# Altium schematic symbol library GBA_1.SCHLIB: 80 symbols (part 1 of 2)
Pins are listed as number, name and electrical type; pins without a type are passive.

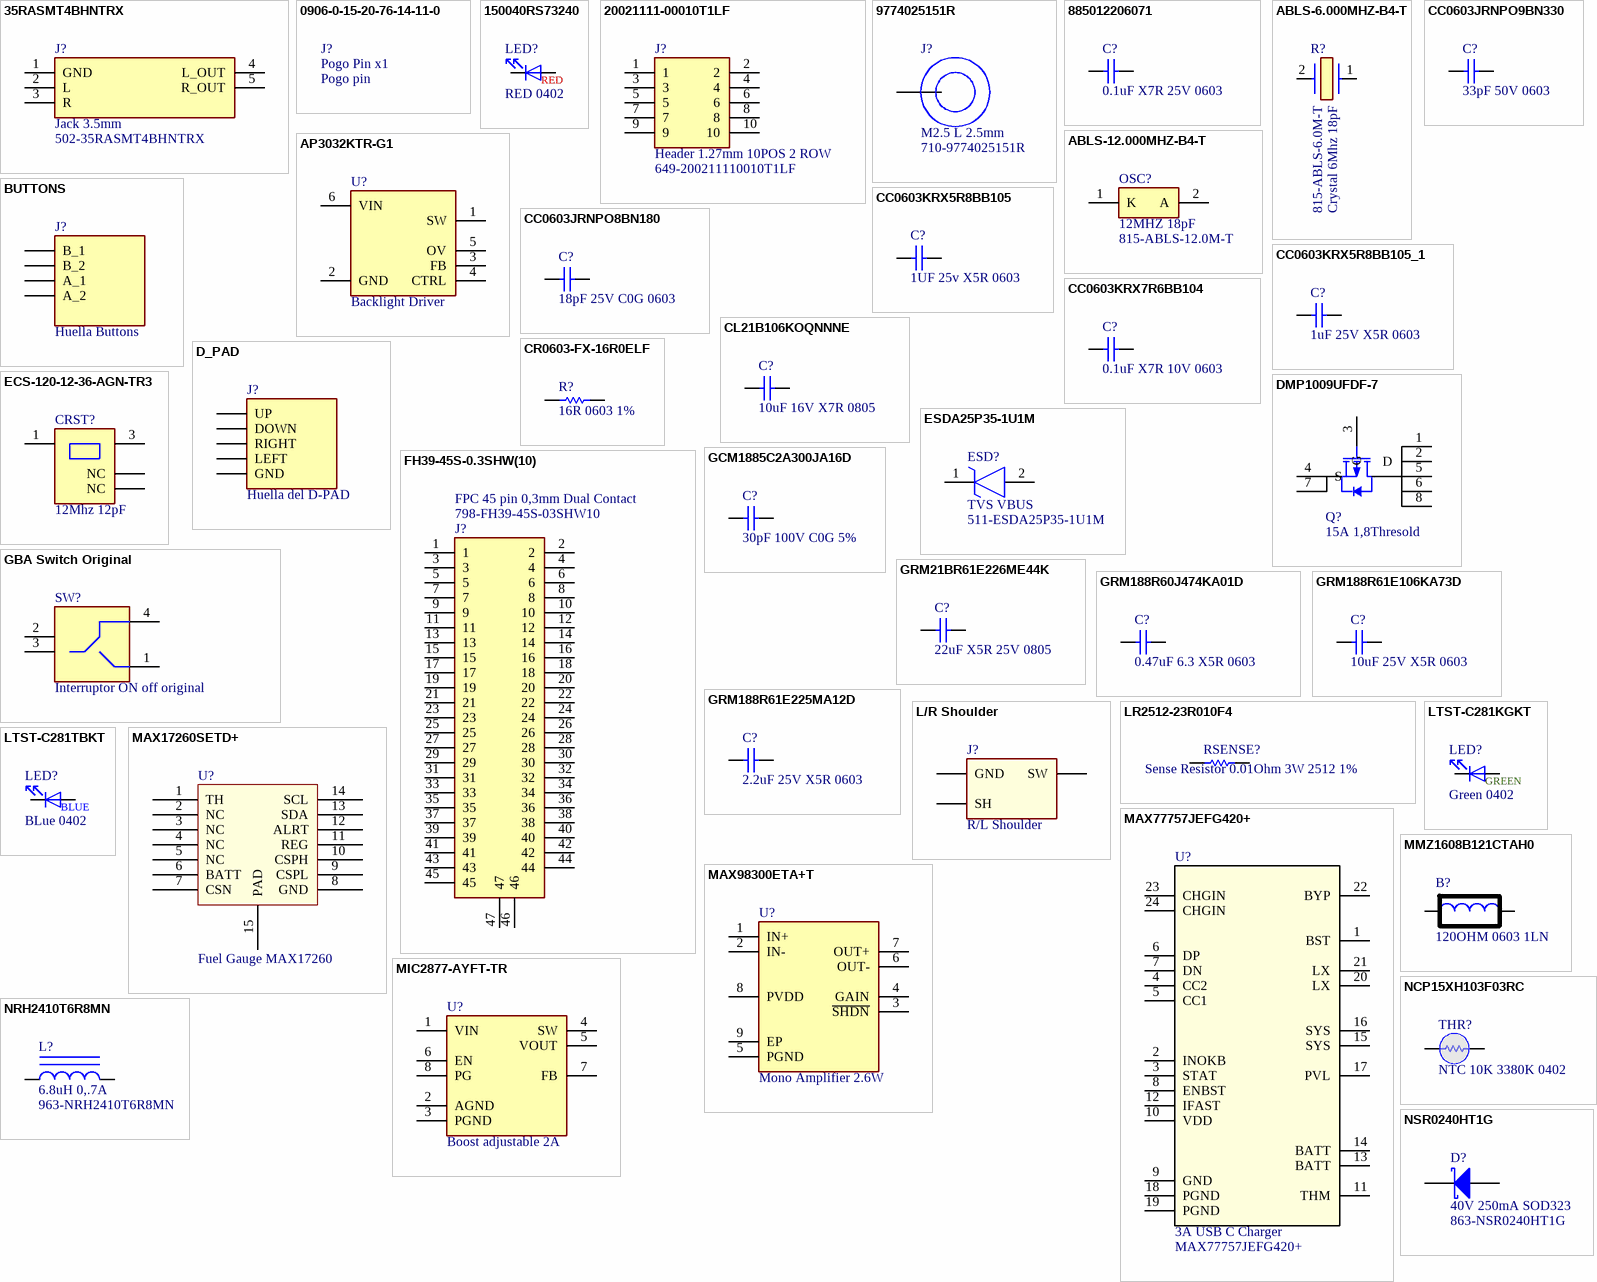
[diagram p0: symbols 35RASMT4BHNTRX to NSR0240HT1G]

## 35RASMT4BHNTRX
designator J?, comment Jack 3.5mm  Supplier Part Number 1: 502-35RASMT4BHNTRX
SWC 35RASMT4BHNTRX Connectors > Audio - Video > Jacks (Audio) > 1/4 Audio Jacks; Manufacturer: Switchcraft; Supplier 1: Mouser; Manufacturer Part Number: 35RASMT4BHNTRX; RoHS: Yes; Category: Circular Connectors; Stock 1: 5330; Pricing 1: 1=1,60000, 10=1,31000, 50=1,31000, 100=1,25000, 250=1,13000, 500=1,04000, 1000=0,95900, 10000=0,95900 (USD); ComponentLink1URL: https://datasheet.ciiva.com/390/35rasmt4bhntrx-cd-390487.pdf?src-supplier=Digi-Key; ComponentLink1Description: https://datasheet.ciiva.com/390/35rasmt4bhntrx-cd-390487.pdf?src-supplier=Digi-Key; ComponentLink2URL: https://datasheet.ciiva.com/11720/0900766b80e28029-11720622.pdf?src-supplier=RSComponents; ComponentLink2Description: https://datasheet.ciiva.com/11720/0900766b80e28029-11720622.pdf?src-supplier=RSComponents; ComponentLink3URL: https://datasheet.ciiva.com/390/35rasmt4bhntrx-cd-390488.pdf?src-supplier=Digi-Key; ComponentLink3Description: https://datasheet.ciiva.com/390/35rasmt4bhntrx-cd-390488.pdf?src-supplier=Digi-Key; ComponentLink4URL: https://datasheet.ciiva.com/390/35rasmt4bhntrx-cd-390489.pdf?src-supplier=Digi-Key; ComponentLink4Description: https://datasheet.ciiva.com/390/35rasmt4bhntrx-cd-390489.pdf?src-supplier=Digi-Key
footprint 35RASMT4BHNTRX
pins: 1 GND, 2 L, 3 R, 4 L_OUT, 5 R_OUT

## 0906-0-15-20-76-14-11-0
designator J?, comment Pogo pin  (mechanical)
0906 Series Spring-Loaded Pin Shell Material=Brass Alloy; Manufacturer: Mill-Max; Manufacturer Part Number: 0906-0-15-20-76-14-11-0; Supplier 1: Mouser; RoHS: Yes; Category: Connectors; Stock 1: 63461; Pricing 1: 1=0,56000, 10=0,42300, 50=0,42300, 100=0,37000, 500=0,35200, 1000=0,29000, 2500=0,25500, 10000=0,23400, 30000=0,22800, 50000=0,22000 (USD); ComponentLink1URL: https://datasheet.ciiva.com/16427/0906-0-15-20-76-14-11-0-16427148.pdf?src-supplier=Future+Electronics; ComponentLink1Description: https://datasheet.ciiva.com/16427/0906-0-15-20-76-14-11-0-16427148.pdf?src-supplier=Future+Electronics; ComponentLink2URL: https://datasheet.ciiva.com/16886/70206242-16886092.pdf?src-supplier=Allied+Electronics; ComponentLink2Description: https://datasheet.ciiva.com/16886/70206242-16886092.pdf?src-supplier=Allied+Electronics; Supplier Part Number 1: 575-906015
text: Pogo Pin x1

## 150040RS73240
designator LED?, comment RED 0402
Led Red Clear 0402 SMD; Manufacturer: Wurth Electronics; Manufacturer Part Number: 150040RS73240; Lens Color: Colorless; Lens Style: Flat; Luminous Intensity: 100mcd; Forward Voltage: 2V; Test Current: 20mA; Viewing Angle: 120°; Dominant Wavelength: 625nm; Lens Size: 0.5mm; Supplier 1: Mouser; RoHS: Yes; Category: LEDs; Stock 1: 82489; Pricing 1: 1=0,32000, 10=0,27100, 50=0,27100, 100=0,24400, 1000=0,19100, 10000=0,16400 (USD); Mount: Surface Mount; Case/Package: 0402; Color: Red; Case Code (Imperial): 0402; Case Code (Metric): 1005; Packaging: Tape and Reel; Lens Transparency: Clear; Length: 1mm; Width: 0.5mm; Height: 0.5mm; RoHS Compliant: Yes; ComponentLink1URL: http://www.farnell.com/datasheets/2621636.pdf?src-supplier=Farnell; ComponentLink1Description: http://www.farnell.com/datasheets/2621636.pdf?src-supplier=Farnell; ComponentLink2URL: http://www.farnell.com/datasheets/2621636.pdf?src-supplier=Element14; ComponentLink2Description: http://www.farnell.com/datasheets/2621636.pdf?src-supplier=Element14; ComponentLink3URL: https://katalog.we-online.de/pbs/datasheet/150040RS73240.pdf?src-supplier=Digi-Key; ComponentLink3Description: https://katalog.we-online.de/pbs/datasheet/150040RS73240.pdf?src-supplier=Digi-Key; ComponentLink4URL: http://www.farnell.com/datasheets/2621636.pdf?src-supplier=Newark; ComponentLink4Description: http://www.farnell.com/datasheets/2621636.pdf?src-supplier=Newark; Supplier Part Number 1: 710-150040RS73240
footprint LED 0402
pins: 1 K, 2 A
text: RED

## 20021111-00010T1LF
designator J?, comment Header 1.27mm 10POS 2 ROW  Supplier Part Number 1: 649-200211110010T1LF
Conn Unshrouded Header HDR 10 POS 1.27mm Solder ST Thru-Hole Tube; Manufacturer 1: Amphenol FCI; Manufacturer Part Number 1: 20021111-00010T1LF; Number of Contacts: 10; Contact Resistance: 30mR; Max Voltage Rating (AC): 125V; Connector Type: Male Pin; Row Spacing: 0.05inch; Contact Post Length: 2.3mm; Supplier 1: Mouser; Stock 1: 552; Pricing 1: 1=0,62000, 10=0,46900, 100=0,44900, 500=0,39100, 1000=0,32200, 2500=0,29300, 5000=0,28300 (USD); RoHS: Yes; Mount: Through Hole; Contact Plating: Gold; Color: Black; Contact Material: Copper Alloy; Housing Color: Black; Housing Material: Thermoplastic; Min Operating Temperature: -40°C; Max Operating Temperature: 85°C; Number of Rows: 2; Termination: Solder; Package Quantity: 93; Packaging: Rail/Tube; Number of Positions: 10; Orientation: Straight; Length: 6.35mm; Pitch: 1.27mm; Contact Mating Length: 0.12inch; Depth: 3.4mm; ComponentLink1URL: http://www.mouser.com/ds/2/154/minitek127_catalogue-79600.pdf?src-supplier=Mouser; ComponentLink1Description: http://www.mouser.com/ds/2/154/minitek127_catalogue-79600.pdf?src-supplier=Mouser; ComponentLink2URL: http://components.arrow.com/part/dataview/0323_00886572?src-supplier=Arrow+Europe; ComponentLink2Description: http://components.arrow.com/part/dataview/0323_00886572?src-supplier=Arrow+Europe; ComponentLink3URL: http://components.arrow.com/part/dataview/48961252S8521297N8314?src-supplier=Arrow; ComponentLink3Description: http://components.arrow.com/part/dataview/48961252S8521297N8314?src-supplier=Arrow; ComponentLink4URL: http://portal.fciconnect.com/Comergent//fci/drawing/20021111.pdf?src-supplier=Digi-Key; ComponentLink4Description: http://portal.fciconnect.com/Comergent//fci/drawing/20021111.pdf?src-supplier=Digi-Key; ComponentLink5URL: http://portal.fciconnect.com/Comergent/fci/drawing/20021111.pdf?src-supplier=Avnet; ComponentLink5Description: http://portal.fciconnect.com/Comergent/fci/drawing/20021111.pdf?src-supplier=Avnet
footprint 20021111-00010T1LF
pins: 1, 2, 3, 4, 5, 6, 7, 8, 9, 10

## 9774025151R
designator J?, comment M2.5 L 2.5mm  Supplier Part Number 1: 710-9774025151R  (mechanical)
Spacer Material: Steel Mounting: SMT Series: WA-SMSI Thread D: M2.5; Manufacturer: Wurth Electronics; Manufacturer Part Number: 9774025151R; Plating: Tin; Threaded/Unthreaded: Threaded; Outside Diameter: 0.201inch; Supplier 1: Mouser; RoHS: Yes; Category: Spacers, Standoffs; Stock 1: 24227; Pricing 1: 1=1,27000, 10=1,22000, 50=1,07000, 100=0,97900, 500=0,90700, 1000=0,90700, 10000=0,90700 (USD); Material: Steel; Length: 0.154inch; REACH SVHC: Unknown; ComponentLink1URL: http://www.farnell.com/datasheets/1960364.pdf?src-supplier=Farnell; ComponentLink1Description: http://www.farnell.com/datasheets/1960364.pdf?src-supplier=Farnell; ComponentLink2URL: http://www.mouser.com/ds/2/445/9774025151R-611453.pdf?src-supplier=Mouser; ComponentLink2Description: http://www.mouser.com/ds/2/445/9774025151R-611453.pdf?src-supplier=Mouser; ComponentLink3URL: https://media.digikey.com/pdf/Data%20Sheets/Wurth%20Electronics%20PDFs/WA-SMSx_Performance_Flyer.pdf?src-supplier=Digi-Key; ComponentLink3Description: https://media.digikey.com/pdf/Data%20Sheets/Wurth%20Electronics%20PDFs/WA-SMSx_Performance_Flyer.pdf?src-supplier=Digi-Key; ComponentLink4URL: http://www.farnell.com/datasheets/1960364.pdf?src-supplier=Element14; ComponentLink4Description: http://www.farnell.com/datasheets/1960364.pdf?src-supplier=Element14; ComponentLink5URL: http://www.farnell.com/datasheets/1960364.pdf?src-supplier=Newark; ComponentLink5Description: http://www.farnell.com/datasheets/1960364.pdf?src-supplier=Newark
pins: 1

## 885012206071
designator C?, comment 0.1uF X7R 25V 0603
WURTH ELEKTRONIK         885012206071             SMD Multilayer Ceramic Capacitor, 0603 [1608 Metric], 0.1 F, 25 V,  10%, X7R, WCAP-CSGP Series; Manufacturer: Wurth Electronics; Capacitance: 100nF; Supplier 1: Mouser; Manufacturer Part Number: 885012206071; Stock 1: 202580; Pricing 1: 1=0.1, 10=0.046, 50=0.046, 100=0.041, 1000=0.036, 10000=0.036 (USD); Mount: Surface Mount; Case/Package: 0603; Case Code (Metric): 1608; Case Code (Imperial): 0603; Min Operating Temperature: -55°C; Max Operating Temperature: 125°C; Packaging: Cut Tape; Voltage Rating: 25V; Dielectric: X7R; Tolerance: 10%; Voltage Rating (DC): 25V; Length: 0.063inch; Width: 0.031inch; Thickness: 0.037inch; REACH SVHC: Unknown; Supplier Part Number 1: 710-885012206071
footprint C 0603/1608
pins: 1, 2

## ABLS-6.000MHZ-B4-T
designator R?, comment Crystal 6Mhz 18pF  Supplier Part Number 1: 815-ABLS-6.0M-T
Crystal 6MHz ±30ppm (Tol) ±50ppm (Stability) 18pF FUND 100Ohm 2-Pin HC-49/US SMD T/R; Manufacturer: Abracon; Manufacturer Part Number: ABLS-6.000MHZ-B4-T; ESR (Equivalent Series Resistance): 100R; Supplier 1: Mouser; RoHS: Yes; Category: Crystals; Stock 1: 4366; Pricing 1: 1=0,29000, 10=0,23800, 50=0,23800, 100=0,19200, 1000=0,15600, 10000=0,14200 (USD); Mount: Surface Mount; Case/Package: SMD/SMT; Min Operating Temperature: -20°C; Max Operating Temperature: 70°C; Frequency: 6MHz; Load Capacitance: 18pF; Packaging: Tape and Reel; Package Quantity: 1000; Tolerance: 30ppm; Frequency Tolerance: 30ppm; Frequency Stability: 50ppm; Termination: SMD/SMT; Series Resistance: 100R; Length: 11.4mm; Width: 4.7mm; Height: 0.165inch; Depth: 4.7mm; Radiation Hardening: No; REACH SVHC: Yes; Lead Free: Lead Free; ComponentLink1URL: https://datasheet.ciiva.com/15116/getdatasheetpartid-722413-15116851.pdf?src-supplier=Verical; ComponentLink1Description: https://datasheet.ciiva.com/15116/getdatasheetpartid-722413-15116851.pdf?src-supplier=Verical; ComponentLink2URL: https://datasheet.ciiva.com/16378/abls-16378057.pdf?src-supplier=Future+Electronics; ComponentLink2Description: https://datasheet.ciiva.com/16378/abls-16378057.pdf?src-supplier=Future+Electronics; ComponentLink3URL: https://datasheet.ciiva.com/854/abls-854139.pdf?src-supplier=Digi-Key; ComponentLink3Description: https://datasheet.ciiva.com/854/abls-854139.pdf?src-supplier=Digi-Key; ComponentLink4URL: https://datasheet.ciiva.com/854/abls-854140.pdf?src-supplier=Digi-Key; ComponentLink4Description: https://datasheet.ciiva.com/854/abls-854140.pdf?src-supplier=Digi-Key; ComponentLink5URL: https://datasheet.ciiva.com/854/abls-854138.pdf?src-supplier=Digi-Key; ComponentLink5Description: https://datasheet.ciiva.com/854/abls-854138.pdf?src-supplier=Digi-Key; ComponentLink6URL: https://datasheet.ciiva.com/3175/abls-3175436.pdf?src-supplier=Avnet; ComponentLink6Description: https://datasheet.ciiva.com/3175/abls-3175436.pdf?src-supplier=Avnet
footprint ABLS6000MHZB4T
pins: 1, 2 CRYSTAL_2

## ABLS-12.000MHZ-B4-T
designator OSC?, comment 12MHZ 18pF  Supplier Part Number 1: 815-ABLS-12.0M-T
CRYSTAL 12.0000MHZ 18PF SMD; Manufacturer: Abracon; Manufacturer Part Number: ABLS-12.000MHZ-B4-T; Frequency Tolerance: 30ppm; ESR (Equivalent Series Resistance): 50R; Frequency Stability: 50ppm; Supplier 1: Mouser; RoHS: Yes; Stock 1: 9442; Pricing 1: 1 = 0,27000, 10 = 0,22500, 50 = 0,20400, 100 = 0,20400, 1000 = 0,16300, 10000 = 0,14500 (USD); Mount: Surface Mount; Case/Package: SMD/SMT; Min Operating Temperature: -20°C; Max Operating Temperature: 70°C; Package Quantity: 1000; Frequency: 12MHz; Load Capacitance: 18pF; Packaging: Tape and Reel; Tolerance: 30ppm; Termination: SMD/SMT; Series Resistance: 50R; Length: 11.4mm; Height: 0.165inch; Width: 0.185inch; Depth: 4.7mm; Radiation Hardening: No; REACH SVHC: Yes; Lead Free: Lead Free; ComponentLink1URL: https://datasheet.ciiva.com/15116/getdatasheetpartid-719931-15116807.pdf?src-supplier=Verical; ComponentLink1Description: https://datasheet.ciiva.com/15116/getdatasheetpartid-719931-15116807.pdf?src-supplier=Verical; ComponentLink2URL: https://datasheet.ciiva.com/854/abls-854132.pdf?src-supplier=Digi-Key; ComponentLink2Description: https://datasheet.ciiva.com/854/abls-854132.pdf?src-supplier=Digi-Key; ComponentLink3URL: https://datasheet.ciiva.com/854/abls-854133.pdf?src-supplier=Digi-Key; ComponentLink3Description: https://datasheet.ciiva.com/854/abls-854133.pdf?src-supplier=Digi-Key; ComponentLink4URL: https://datasheet.ciiva.com/854/abls-854134.pdf?src-supplier=Digi-Key; ComponentLink4Description: https://datasheet.ciiva.com/854/abls-854134.pdf?src-supplier=Digi-Key; ComponentLink5URL: https://datasheet.ciiva.com/16339/abls-16339801.pdf?src-supplier=Future+Electronics; ComponentLink5Description: https://datasheet.ciiva.com/16339/abls-16339801.pdf?src-supplier=Future+Electronics; ComponentLink6URL: https://datasheet.ciiva.com/3174/abls-3174254.pdf?src-supplier=Avnet; ComponentLink6Description: https://datasheet.ciiva.com/3174/abls-3174254.pdf?src-supplier=Avnet; ComponentLink7URL: https://datasheet.ciiva.com/4944/abls-44621-4944814.pdf?src-supplier=Mouser; ComponentLink7Description: https://datasheet.ciiva.com/4944/abls-44621-4944814.pdf?src-supplier=Mouser
footprint HC/49US-(AT49)_1
pins: 1 K, 2 A

## AP3032KTR-G1
designator U?, comment Backlight Driver
AP3032 Series 9 V 1.3 MHz Surface Mount White LED Step-Up Converter - SOT-23-6; Manufacturer: Diodes; Manufacturer Part Number: AP3032KTR-G1; Number of Outputs: 1; Frequency: 1MHz; Max Supply Voltage: 9V; Output Current per Channel: 1.4A; Min Input Voltage: 2.7V; Max Output Voltage: 38V; Switching Frequency: 750kHz; Topology: Boost; Dimming: PWM; Supplier 1: Mouser; RoHS: Yes; Category: LED Drivers; Stock 1: 35875; Pricing 1: 1=0,41000, 10=0,33600, 50=0,33600, 100=0,20700, 500=0,17200, 1000=0,12900, 3000=0,11700, 9000=0,10300, 10000=0,10300, 24000=0,09700 (USD); Mount: Surface Mount; Case/Package: SOT-23-6; Number of Pins: 6; Weight: 0.000529oz; Min Operating Temperature: -40°C; Max Operating Temperature: 85°C; Package Quantity: 3000; Packaging: Tape and Reel; Max Input Voltage: 9V; Number of Channels: 1; Lead Free: Lead Free; RoHS Compliant: Yes; ComponentLink1URL: https://datasheet.ciiva.com/29602/ap3032-29602682.pdf?src-supplier=Digi-Key; ComponentLink1Description: https://datasheet.ciiva.com/29602/ap3032-29602682.pdf?src-supplier=Digi-Key; ComponentLink2URL: https://datasheet.ciiva.com/29603/ap3032-29603101.pdf?src-supplier=Digi-Key; ComponentLink2Description: https://datasheet.ciiva.com/29603/ap3032-29603101.pdf?src-supplier=Digi-Key; ComponentLink3URL: https://datasheet.ciiva.com/29603/ap3032-29603100.pdf?src-supplier=Digi-Key; ComponentLink3Description: https://datasheet.ciiva.com/29603/ap3032-29603100.pdf?src-supplier=Digi-Key; Supplier Part Number 1: 621-AP3032KTR-G1
footprint SOT95P280X145-6N
pins: 1 SW, 2 GND, 3 FB, 4 CTRL, 5 OV, 6 VIN

## BUTTONS
designator J?, comment Huella Buttons  (no BOM)
footprint AB_BUTTON
pins: A_1, A_2, B_1, B_2

## CC0603JRNPO8BN180
designator C?, comment 18pF 25V C0G 0603
Cap Ceramic 18pF 25V C0G 5% SMD 0603 125C Paper T/R; Manufacturer 1: Yageo; Manufacturer Part Number 1: CC0603JRNPO8BN180; Supplier 1: Mouser; Stock 1: 521; Pricing 1: 1=0.10000, 10=0.04200, 50=0.04200, 100=0.01900, 1000=0.01500, 10000=0.01000 (USD); RoHS: Yes; Mount: Surface Mount; Case/Package: 0603; Weight: 7.1E-05oz; Case Code (Imperial): 0603; Case Code (Metric): 1608; Min Operating Temperature: -55°C; Max Operating Temperature: 125°C; Capacitance: 18pF; Voltage Rating (DC): 25V; Tolerance: 5%; Packaging: Tape and Reel; Dielectric: C0G; Voltage Rating: 25V; Termination: SMD/SMT; Composition: Ceramic; Length: 0.063inch; Width: 0.031inch; Thickness: 0.035inch; ComponentLink1URL: https://datasheet.ciiva.com/13263/upy-gp-np0-16v-to-50v-8-3714-13263805.pdf?src-supplier=Mouser; ComponentLink1Description: https://datasheet.ciiva.com/13263/upy-gp-np0-16v-to-50v-8-3714-13263805.pdf?src-supplier=Mouser; Supplier Part Number 1: 603-CC603JRNPO8BN180
footprint C 0603/1608
pins: 1, 2

## CC0603JRNPO9BN330
designator C?, comment 33pF 50V 0603
0603 33 pF 50 V ±5 % Tolerance NP0 SMT Multilayer Ceramic Capacitor; Manufacturer: Yageo; Manufacturer Part Number: CC0603JRNPO9BN330; Tolerance: 5%; Dielectric: C0G; Temperature Coefficient: 30ppm/°C; Insulation Resistance: 100GR; Supplier 1: Mouser; RoHS: Yes; Category: Ceramic Capacitors; Stock 1: 62339; Pricing 1: 1=0,10000, 10=0,02400, 50=0,02400, 100=0,01900, 500=0,01700, 1000=0,01300, 4000=0,01000, 10000=0,01000 (USD); Mount: Surface Mount; Case/Package: 0603; Number of Pins: 2; Case Code (Metric): 1608; Case Code (Imperial): 0603; Dielectric Material: Ceramic; Min Operating Temperature: -55°C; Max Operating Temperature: 125°C; Capacitance: 33pF; Packaging: Tape and Reel; Voltage Rating: 50V; Package Quantity: 1; Voltage Rating (DC): 50V; Termination: SMD/SMT; Resistor Type: Ceramic; Voltage: 50V; Series: CC; Length: 1.6mm; Width: 0.031inch; Height: 0.8mm; Thickness: 0.035inch; Depth: 0.8mm; Radiation Hardening: No; REACH SVHC: No SVHC; Lead Free: Lead Free; RoHS Compliant: Yes; ComponentLink1URL: https://datasheet.ciiva.com/11786/0900766b8079c870-11786082.pdf?src-supplier=RSComponents; ComponentLink1Description: https://datasheet.ciiva.com/11786/0900766b8079c870-11786082.pdf?src-supplier=RSComponents; ComponentLink2URL: https://datasheet.ciiva.com/26862/getdatasheetpartid-403532-26862767.pdf?src-supplier=Verical; ComponentLink2Description: https://datasheet.ciiva.com/26862/getdatasheetpartid-403532-26862767.pdf?src-supplier=Verical; ComponentLink3URL: https://datasheet.ciiva.com/8033/1443161-8033735.pdf?src-supplier=Element14; ComponentLink3Description: https://datasheet.ciiva.com/8033/1443161-8033735.pdf?src-supplier=Element14; ComponentLink4URL: https://datasheet.ciiva.com/7978/1443161-7978142.pdf?src-supplier=Element14; ComponentLink4Description: https://datasheet.ciiva.com/7978/1443161-7978142.pdf?src-supplier=Element14; ComponentLink5URL: https://datasheet.ciiva.com/46430/1835847-46430155.pdf?src-supplier=Element14; ComponentLink5Description: https://datasheet.ciiva.com/46430/1835847-46430155.pdf?src-supplier=Element14; ComponentLink6URL: https://datasheet.ciiva.com/144/mlccorderingcode-144644.pdf?src-supplier=Digi-Key; ComponentLink6Description: https://datasheet.ciiva.com/144/mlccorderingcode-144644.pdf?src-supplier=Digi-Key; ComponentLink7URL: https://datasheet.ciiva.com/144/mlccorderingcode-144643.pdf?src-supplier=Digi-Key; ComponentLink7Description: https://datasheet.ciiva.com/144/mlccorderingcode-144643.pdf?src-supplier=Digi-Key; ComponentLink8URL: https://datasheet.ciiva.com/144/mlccorderingcode-144645.pdf?src-supplier=Digi-Key; ComponentLink8Description: https://datasheet.ciiva.com/144/mlccorderingcode-144645.pdf?src-supplier=Digi-Key; ComponentLink9URL: https://datasheet.ciiva.com/5426/upy-gp-np0-16v-to-50v-8-5426614.pdf?src-supplier=Mouser; ComponentLink9Description: https://datasheet.ciiva.com/5426/upy-gp-np0-16v-to-50v-8-5426614.pdf?src-supplier=Mouser; ComponentLink10URL: https://datasheet.ciiva.com/8033/1372269-8033734.pdf?src-supplier=Element14; ComponentLink10Description: https://datasheet.ciiva.com/8033/1372269-8033734.pdf?src-supplier=Element14; ComponentLink11URL: https://datasheet.ciiva.com/11464/upy-gp-np0-16v-to-50v-8-11464730.pdf?src-supplier=Avnet; ComponentLink11Description: https://datasheet.ciiva.com/11464/upy-gp-np0-16v-to-50v-8-11464730.pdf?src-supplier=Avnet; Supplier Part Number 1: 603-C0603JRNPO9BN330
footprint C 0603/1608
pins: 1, 2

## CC0603KRX5R8BB105
designator C?, comment 1UF 25v X5R 0603
CAP CER 1UF 25V X5R 0603; Manufacturer: Yageo; Manufacturer Part Number: CC0603KRX5R8BB105; Tolerance: 10%; Supplier 1: Mouser; RoHS: Yes; Stock 1: 9567246; Pricing 1: 1 = 0,10000, 10 = 0,04700, 50 = 0,04700, 100 = 0,01700, 1000 = 0,01600, 10000 = 0,00800 (USD); Mount: Surface Mount; Case/Package: 0603; Number of Pins: 2; Case Code (Metric): 1608; Case Code (Imperial): 0603; Min Operating Temperature: -55°C; Max Operating Temperature: 85°C; Package Quantity: 1; Capacitance: 1uF; Voltage Rating: 25V; Packaging: Tape and Reel; Dielectric: X5R; Termination: SMD/SMT; Voltage Rating (DC): 25V; Length: 1.6mm; Height: 0.8mm; Width: 0.031inch; Thickness: 0.035inch; Depth: 0.8mm; Radiation Hardening: No; REACH SVHC: No SVHC; Lead Free: Lead Free; Halogen Free: Halogen Free; ComponentLink1URL: https://datasheet.ciiva.com/176/mlccorderingcode-176785.pdf?src-supplier=Digi-Key; ComponentLink1Description: https://datasheet.ciiva.com/176/mlccorderingcode-176785.pdf?src-supplier=Digi-Key; ComponentLink2URL: https://datasheet.ciiva.com/176/mlccorderingcode-176786.pdf?src-supplier=Digi-Key; ComponentLink2Description: https://datasheet.ciiva.com/176/mlccorderingcode-176786.pdf?src-supplier=Digi-Key; ComponentLink3URL: https://datasheet.ciiva.com/176/mlccorderingcode-176787.pdf?src-supplier=Digi-Key; ComponentLink3Description: https://datasheet.ciiva.com/176/mlccorderingcode-176787.pdf?src-supplier=Digi-Key; ComponentLink4URL: https://datasheet.ciiva.com/17436/upy-gphc-x5r-4v-to-50v-12-17436952.pdf?src-supplier=Avnet+Europe; ComponentLink4Description: https://datasheet.ciiva.com/17436/upy-gphc-x5r-4v-to-50v-12-17436952.pdf?src-supplier=Avnet+Europe; ComponentLink5URL: https://datasheet.ciiva.com/7978/1525783-7978171.pdf?src-supplier=Element14; ComponentLink5Description: https://datasheet.ciiva.com/7978/1525783-7978171.pdf?src-supplier=Element14; ComponentLink6URL: https://datasheet.ciiva.com/11586/upy-gphc-x5r-4v-to-50v-12-11586318.pdf?src-supplier=Avnet; ComponentLink6Description: https://datasheet.ciiva.com/11586/upy-gphc-x5r-4v-to-50v-12-11586318.pdf?src-supplier=Avnet; Supplier Part Number 1: 603-CC603KRX5R8BB105
footprint C 0603/1608
pins: 1, 2

## CC0603KRX5R8BB105_1
designator C?, comment 1uF 25V X5R 0603
CAP CER 1UF 25V X5R 0603; Manufacturer: Yageo; Manufacturer Part Number: CC0603KRX5R8BB105; Tolerance: 10%; Supplier 1: Mouser; RoHS: Yes; Stock 1: 9605452; Pricing 1: 1 = 0,10000, 10 = 0,04700, 50 = 0,04700, 100 = 0,01700, 1000 = 0,01600, 10000 = 0,00800 (USD); Mount: Surface Mount; Case/Package: 0603; Number of Pins: 2; Case Code (Metric): 1608; Case Code (Imperial): 0603; Min Operating Temperature: -55°C; Max Operating Temperature: 85°C; Capacitance: 1uF; Dielectric: X5R; Package Quantity: 1; Voltage Rating: 25V; Packaging: Tape and Reel; Termination: SMD/SMT; Voltage Rating (DC): 25V; Length: 1.6mm; Height: 0.8mm; Width: 0.031inch; Thickness: 0.035inch; Depth: 0.8mm; Radiation Hardening: No; REACH SVHC: No SVHC; Lead Free: Lead Free; Halogen Free: Halogen Free; ComponentLink1URL: https://datasheet.ciiva.com/176/mlccorderingcode-176785.pdf?src-supplier=Digi-Key; ComponentLink1Description: https://datasheet.ciiva.com/176/mlccorderingcode-176785.pdf?src-supplier=Digi-Key; ComponentLink2URL: https://datasheet.ciiva.com/176/mlccorderingcode-176786.pdf?src-supplier=Digi-Key; ComponentLink2Description: https://datasheet.ciiva.com/176/mlccorderingcode-176786.pdf?src-supplier=Digi-Key; ComponentLink3URL: https://datasheet.ciiva.com/176/mlccorderingcode-176787.pdf?src-supplier=Digi-Key; ComponentLink3Description: https://datasheet.ciiva.com/176/mlccorderingcode-176787.pdf?src-supplier=Digi-Key; ComponentLink4URL: https://datasheet.ciiva.com/17436/upy-gphc-x5r-4v-to-50v-12-17436952.pdf?src-supplier=Avnet+Europe; ComponentLink4Description: https://datasheet.ciiva.com/17436/upy-gphc-x5r-4v-to-50v-12-17436952.pdf?src-supplier=Avnet+Europe; ComponentLink5URL: https://datasheet.ciiva.com/7978/1525783-7978171.pdf?src-supplier=Element14; ComponentLink5Description: https://datasheet.ciiva.com/7978/1525783-7978171.pdf?src-supplier=Element14; ComponentLink6URL: https://datasheet.ciiva.com/11586/upy-gphc-x5r-4v-to-50v-12-11586318.pdf?src-supplier=Avnet; ComponentLink6Description: https://datasheet.ciiva.com/11586/upy-gphc-x5r-4v-to-50v-12-11586318.pdf?src-supplier=Avnet; Supplier Part Number 1: 603-CC603KRX5R8BB105
footprint C 0603/1608
pins: 1, 2

## CC0603KRX7R6BB104
designator C?, comment 0.1uF X7R 10V 0603
Multilayer Ceramic Capacitors MLCC - SMD/SMT 100nF 10V X7R 10%; Manufacturer: Yageo; Manufacturer Part Number: CC0603KRX7R6BB104; Supplier 1: Mouser; Stock 1: 15698; Pricing 1: 1=0.12, 10=0.06, 50=0.06, 100=0.027, 1000=0.022, 10000=0.016 (USD); Mount: Surface Mount; Case/Package: 0603; Weight: 7.1E-05oz; Case Code (Imperial): 0603; Case Code (Metric): 1608; Min Operating Temperature: -55°C; Max Operating Temperature: 125°C; Capacitance: 100nF; Tolerance: 10%; Dielectric: X7R; Voltage Rating: 10V; Voltage Rating (DC): 10V; Packaging: Tape and Reel; Termination: SMD/SMT; Composition: Ceramic; Length: 1.6mm; Height: 0.8mm; Width: 0.8mm; Thickness: 0.035inch; Depth: 0.8mm; Radiation Hardening: No; Lead Free: Lead Free; Halogen Free: Halogen Free; ComponentLink1URL: http://www.yageo.com/documents/recent/UPY-GPHC_X7R_6.3V-to-50V_8.pdf; ComponentLink1Description: http://www.yageo.com/documents/recent/UPY-GPHC_X7R_6.3V-to-50V_8.pdf; Supplier Part Number 1: 603-CC603KRX7R6BB104
footprint C 0603/1608
pins: 1, 2

## CL21B106KOQNNNE
designator C?, comment 10uF 16V X7R 0805
CAP CER 10UF 16V X7R 0805; Manufacturer: Samsung Electro-Mechanics; Manufacturer Part Number: CL21B106KOQNNNE; Tolerance: ±10%; Notification: Current market demand for these product types have resulted in fluctuating and extending lead times. Lead times may differ.; Supplier 1: Digi-Key; RoHS: RoHS Compliant; Category: Capacitors; Stock 1: 20000; Pricing 1: 1=0.24, 10=0.163, 100=0.0923, 500=0.06514, 1000=0.057 (GBP); Packaging: Cut Tape (CT); Part Status: Active; Voltage - Rated: 16V; Temperature Coefficient: X7R; Operating Temperature: -55°C ~ 125°C; Features: -; Ratings: -; Applications: General Purpose; Mounting Type: Surface Mount, MLCC; Package / Case: 0805 (2012 Metric); Size / Dimension: 0.079" L x 0.049" W (2.00mm x 1.25mm); Height - Seated (Max): -; Thickness (Max): 0.055" (1.40mm); Lead Spacing: -; Lead Style: -; ComponentLink1URL: http://www.samsungsem.com/kr/support/product-search/mlcc/CL21B106KOQNNNE.jsp; ComponentLink1Description: http://www.samsungsem.com/kr/support/product-search/mlcc/CL21B106KOQNNNE.jsp; Supplier Part Number 1: 1276-2872-1-ND
footprint C 0805/2012
pins: 1, 2

## CR0603-FX-16R0ELF
designator R?, comment 16R 0603 1%
Res Thick Film 0603 16 Ohm 1% 1/10W ±100ppm/°C Molded SMD SMD Paper Tape on Plastic Reel; Manufacturer: Bourns; Manufacturer Part Number: CR0603-FX-16R0ELF; Power Rating: 100mW; Voltage Rating: 50V; Supplier 1: Mouser; RoHS: Yes; Category: Chip SMD Resistors; Stock 1: 13336; Pricing 1: 1=0,10000, 10=0,03400, 50=0,03400, 100=0,01400, 1000=0,00700, 10000=0,00400 (USD); Mount: Surface Mount; Case/Package: 0603; Case Code (Imperial): 0603; Case Code (Metric): 1608; Contact Plating: Tin; Min Operating Temperature: -55°C; Max Operating Temperature: 155°C; Packaging: Tape and Reel; Package Quantity: 5000; Resistance: 16R; Tolerance: 1%; Resistor Type: Thick Film; Termination: SMD/SMT; Number of Terminations: 2; Temperature Coefficient: 100ppm/°C; Max Power Dissipation: 100mW; Features: Moisture Resistant; Series: CR0603; Construction: Rectangular; Length: 1.6mm; Width: 0.8mm; Height: 0.022inch; Depth: 0.8mm; Thickness: 457um; Radiation Hardening: No; Military Standard: Not; RoHS Compliant: Yes; ComponentLink1URL: https://datasheet.ciiva.com/9122/chpreztr-9122055.pdf?src-supplier=Avnet; ComponentLink1Description: https://datasheet.ciiva.com/9122/chpreztr-9122055.pdf?src-supplier=Avnet; Supplier Part Number 1: 652-CR0603FX-16R0ELF
footprint R 0603/1608
pins: 1, 2

## D_PAD
designator J?, comment Huella del D-PAD  (no BOM)
footprint D-PAD
pins: DOWN, GND, LEFT, RIGHT, UP

## DMP1009UFDF-7
designator Q?, comment 15A 1,8Thresold
MOSFET P-CH 12V 15A UDFN2020-6; Manufacturer: Diodes; Manufacturer Part Number: DMP1009UFDF-7; Supplier 1: Mouser; RoHS: No; Stock 1: 2267; Pricing 1: 1 = 0,43000, 10 = 0,36100, 50 = 0,36100, 100 = 0,22000, 1000 = 0,17000, 10000 = 0,14500 (USD); ComponentLink1URL: https://www.diodes.com/assets/Datasheets/DMP1009UFDF.pdf?src-supplier=Digi-Key; ComponentLink1Description: https://www.diodes.com/assets/Datasheets/DMP1009UFDF.pdf?src-supplier=Digi-Key; Supplier Part Number 1: 621-DMP1009UFDF-7
footprint DMP1009UFDF-7
pins: 1 D, 2 D, 3 G, 4 S, 5 D, 6 D, 7 S, 8 D

## ECS-120-12-36-AGN-TR3
designator CRST?, comment 12Mhz 12pF
Crystal 12.0000MHZ 12PF SMD; Manufacturer: ECS International; Manufacturer Part Number: ECS-120-12-36-AGN-TR3; Supplier 1: Mouser; RoHS: No; Category: Uncategorized; Stock 1: 18886; Pricing 1: 1=0,37000, 10=0,31300, 50=0,31300, 100=0,25000, 1000=0,20000, 10000=0,18100 (USD); Supplier Part Number 1: 520-120-12-36AGN-TR3
footprint SMD 2.5x2mm Crystal
pins: 1, 2 NC, 3, 4 NC

## ESDA25P35-1U1M
designator ESD?, comment TVS VBUS  Supplier Part Number 1: 511-ESDA25P35-1U1M
STMICROELECTRONICS - ESDA25P35-1U1M - ESD Protection Device, Unidirectional, 41 V, QFN, 2 Pins; Number of Unidirectional Channels: 1; Reverse Standoff Voltage: 22V; Min Breakdown Voltage: 23.3V; Clamping Voltage: 41V; Peak Pulse Current: 35A; Peak Pulse Power: 1.4kW; Power Line Protection: No; Supplier 1: Mouser; Manufacturer: STMicroelectronics; Manufacturer Part Number: ESDA25P35-1U1M; RoHS: Yes; Category: TVS Diodes; Stock 1: 23753; Mount: Surface Mount; Case/Package: 1610; Number of Pins: 2; Min Operating Temperature: -55°C; Max Operating Temperature: 150°C; Resistor Type: Zener; Packaging: Tape and Reel; RoHS Compliant: Yes; ComponentLink1URL: http://www.farnell.com/datasheets/2236209.pdf?src-supplier=Farnell; ComponentLink1Description: http://www.farnell.com/datasheets/2236209.pdf?src-supplier=Farnell; ComponentLink2URL: http://www.st.com/content/ccc/resource/technical/document/datasheet/group3/e4/43/53/b9/4e/8a/40/bb/DM00312034/files/DM00312034.pdf/jcr:content/translations/en.DM00312034.pdf?src-supplier=Digi-Key; ComponentLink2Description: http://www.st.com/content/ccc/resource/technical/document/datasheet/group3/e4/43/53/b9/4e/8a/40/bb/DM00312034/files/DM00312034.pdf/jcr:content/translations/en.DM00312034.pdf?src-supplier=Digi-Key; ComponentLink3URL: http://www.farnell.com/datasheets/2236209.pdf?src-supplier=Element14; ComponentLink3Description: http://www.farnell.com/datasheets/2236209.pdf?src-supplier=Element14; ComponentLink4URL: http://www.farnell.com/datasheets/2236209.pdf?src-supplier=Newark; ComponentLink4Description: http://www.farnell.com/datasheets/2236209.pdf?src-supplier=Newark
footprint ESDA8P801U1M
pins: 1 K, 2 A

## FH39-45S-0.3SHW(10)
designator J?, comment FPC 45 pin 0,3mm Dual Contact  Supplier Part Number 1: 798-FH39-45S-03SHW10
FFC FPC Connectors Horizontal Mounting Angle Beige 0.3 mm - Pitch 45 Positions; Manufacturer: Hirose; Manufacturer Part Number: FH39-45S-0.3SHW(10); Supplier 1: Mouser; RoHS: Yes; Category: FFC / FPC; Stock 1: 11777; Pricing 1: 1=2,46000, 10=2,05000, 50=2,05000, 100=1,92000, 250=1,73000, 500=1,60000, 1000=1,37000, 2500=1,28000, 5000=1,21000, 10000=1,18000 (USD); ComponentLink1URL: https://datasheet.ciiva.com/5138/e58018001-27728-5138044.pdf?src-supplier=Mouser; ComponentLink1Description: https://datasheet.ciiva.com/5138/e58018001-27728-5138044.pdf?src-supplier=Mouser
footprint FH3945S03SHW10
pins: 1, 2, 3, 4, 5, 6, 7, 8, 9, 10, 11, 12, 13, 14, 15, 16, 17, 18, 19, 20, 21, 22, 23, 24, 25, 26, 27, 28, 29, 30, 31, 32, 33, 34, 35, 36, 37, 38, 39, 40, 41, 42, 43, 44, 45, 46, 47

## GBA Switch Original
designator SW?, comment Interruptor ON off original
Interruptor Original On OFF
footprint SWITCH_ORIGINAL
pins: 1, 2, 3, 4

## GCM1885C2A300JA16D
designator C?, comment 30pF 100V C0G 5%
Condensadores de cerámica multicapa (MLCC- SMD/SMT) 30pF 100Volts C0G 5%; Manufacturer: Murata; Manufacturer Part Number: GCM1885C2A300JA16D; Supplier 1: Mouser; Stock 1: 7933; Pricing 1: 1=0.15, 10=0.115, 50=0.115, 100=0.054, 1000=0.031, 10000=0.022 (USD); Mount: Surface Mount; Case/Package: 0603; Case Code (Imperial): 0603; Case Code (Metric): 1608; Min Operating Temperature: -25°C; Max Operating Temperature: 125°C; Voltage Rating: 100V; Capacitance: 30pF; Voltage Rating (DC): 100V; Tolerance: 5%; Packaging: Tape and Reel; Package Quantity: 4000; Dielectric: C0G; Termination: SMD/SMT; Length: 1.6mm; Height: 0.8mm; Width: 0.8mm; Thickness: 0.035inch; Depth: 0.8mm; Ratings: AEC-Q200; Radiation Hardening: No; ComponentLink1URL: http://search.murata.co.jp/Ceramy/image/img/w_hinm/S0717E.pdf?src-supplier=Digi-Key; ComponentLink1Description: http://search.murata.co.jp/Ceramy/image/img/w_hinm/S0717E.pdf?src-supplier=Digi-Key; ComponentLink2URL: http://www.murata.com/products/catalog/pdf/c03e.pdf?src-supplier=Avnet; ComponentLink2Description: http://www.murata.com/products/catalog/pdf/c03e.pdf?src-supplier=Avnet; Supplier Part Number 1: 81-GCM1885C2A300JA6D
footprint C 0603/1608
pins: 1, 2

## GRM21BR61E226ME44K
designator C?, comment 22uF X5R 25V 0805
Multilayer Ceramic Capacitors MLCC - SMD/SMT; Manufacturer: Murata; Manufacturer Part Number: GRM21BR61E226ME44K; Tolerance: 20%; Supplier 1: Mouser; Stock 1: 50478; Pricing 1: 1=0.54, 10=0.383, 50=0.383, 100=0.252, 1000=0.159, 10000=0.148 (USD); Mount: Surface Mount; Case/Package: 0805; Weight: 0.000335oz; Case Code (Imperial): 0805; Case Code (Metric): 2012; Min Operating Temperature: -55°C; Max Operating Temperature: 85°C; Packaging: Tape and Reel; Capacitance: 22uF; Voltage Rating: 25V; Dielectric: X5R; Termination: SMD/SMT; Composition: Ceramic; Voltage Rating (DC): 25V; Package Quantity: 10000; Length: 0.079inch; Height: 1.25mm; Width: 1.25mm; Thickness: 0.057inch; Supplier Part Number 1: 81-GRM21BR61E226ME4K
footprint C 0805/2012
pins: 1, 2

## GRM188R60J474KA01D
designator C?, comment 0.47uF 6.3 X5R 0603
CAP CER 0.47UF 6.3V X5R 0603; Manufacturer: Murata Electronics North America; Manufacturer Part Number: GRM188R60J474KA01D; Tolerance: ±10%; Notification: Current market demand for these product types have resulted in fluctuating and extending lead times. Lead times may differ.; Supplier 1: Digi-Key; RoHS: RoHS Compliant; Category: Capacitors; Stock 1: 40000; Pricing 1: 1=0.13, 10=0.092, 100=0.0467, 500=0.032, 1000=0.0283 (GBP); Packaging: Cut Tape (CT); Part Status: Not For New Designs; Voltage - Rated: 6.3V; Temperature Coefficient: X5R; Operating Temperature: -55°C ~ 85°C; Features: -; Ratings: -; Applications: General Purpose; Mounting Type: Surface Mount, MLCC; Package / Case: 0603 (1608 Metric); Size / Dimension: 0.063" L x 0.031" W (1.60mm x 0.80mm); Height - Seated (Max): -; Thickness (Max): 0.035" (0.90mm); Lead Spacing: -; Lead Style: -; ComponentLink1URL: https://www.murata.com/~/media/webrenewal/support/library/catalog/products/capacitor/mlcc/c02e.ashx?la=en-us; ComponentLink1Description: https://www.murata.com/~/media/webrenewal/support/library/catalog/products/capacitor/mlcc/c02e.ashx?la=en-us; Supplier Part Number 1: 490-1548-1-ND
footprint C 0603/1608
pins: 1, 2

## GRM188R61E106KA73D
designator C?, comment 10uF 25V X5R 0603
Cap Ceramic 10uF 25V X5R 10% SMD 0603 85°C Paper T/R; Manufacturer 1: Murata; Manufacturer Part Number 1: GRM188R61E106KA73D; Supplier 1: Mouser; Stock 1: 265910; Pricing 1: 1=0.37000, 10=0.25900, 50=0.25900, 100=0.15500, 500=0.11600, 1000=0.09800, 4000=0.07600, 8000=0.07000, 10000=0.07000, 12000=0.06300 (USD); RoHS: No; Case/Package: 0603; Supplier Part Number 1: 81-GRM188R61E106KA3D
footprint C 0603/1608
pins: 1, 2

## GRM188R61E225MA12D
designator C?, comment 2.2uF 25V X5R 0603
CAP CER 2.2UF 25V X5R 0603; Manufacturer 1: Murata; Manufacturer Part Number 1: GRM188R61E225MA12D; Tolerance: 20%; Supplier 1: Mouser; Stock 1: 103424; Pricing 1: 1=0,16000, 10=0,11500, 50=0,11500, 100=0,05400, 1000=0,03200, 10000=0,02300 (USD); RoHS: Yes; Mount: Surface Mount; Case/Package: 0603; Weight: 0.000222oz; Case Code (Metric): 1608; Case Code (Imperial): 0603; Min Operating Temperature: -55°C; Max Operating Temperature: 85°C; Capacitance: 2.2uF; Packaging: Tape and Reel; Voltage Rating: 25V; Dielectric: X5R; Termination: SMD/SMT; Composition: Ceramic; Voltage Rating (DC): 25V; Package Quantity: 4000; Length: 0.063inch; Height: 0.8mm; Width: 0.031inch; Thickness: 0.035inch; ComponentLink1URL: http://www.mouser.com/ds/2/281/c02e-2905.pdf?src-supplier=Mouser; ComponentLink1Description: http://www.mouser.com/ds/2/281/c02e-2905.pdf?src-supplier=Mouser; ComponentLink2URL: http://search.murata.co.jp/Ceramy/image/img/A01X/G101/ENG/GRM188R61E225MA12-01.pdf?src-supplier=Digi-Key; ComponentLink2Description: http://search.murata.co.jp/Ceramy/image/img/A01X/G101/ENG/GRM188R61E225MA12-01.pdf?src-supplier=Digi-Key; Supplier Part Number 1: 81-GRM188R61E225MA2D
footprint C 0603/1608
pins: 1, 2

## L/R Shoulder
designator J?, comment R/L Shoulder
Buy on Aliexpress
footprint SHOULDER_BUTTON
pins: GND, SH, SW

## LR2512-23R010F4
designator RSENSE?, comment Sense Resistor 0.01Ohm 3W 2512 1%
Low Resistors & Current Sense Resistors - Surface Mount 0.01Ohms ±1% 3W 2512 RoHS
footprint R2512
pins: 1, 2

## LTST-C281KGKT
designator LED?, comment Green 0402
Green 0603 130° Water Clear 35 mcd 2.4 V Surface Mount LED Chip; Manufacturer: Vishay Lite-On; Manufacturer Part Number: LTST-C281KGKT; Lens Color: Colorless; Power Rating: 75mW; Luminous Intensity: 35mcd; Forward Current: 20mA; Forward Voltage: 2V; Lens Style: Diffused,Colorless,Clear,Rectangular; Dominant Wavelength: 571nm; Number of Elements: 1; Reverse Voltage: 5V; Supplier 1: Mouser; RoHS: Yes; Category: LEDs; Stock 1: 168688; Pricing 1: 1=0,31000, 10=0,24500, 50=0,24500, 100=0,11100, 500=0,10000, 1000=0,08200, 5000=0,07100, 10000=0,05600, 25000=0,05300, 50000=0,04700 (USD); Mount: Surface Mount; Case/Package: SMD/SMT; Number of Pins: 2; Color: Green; Min Operating Temperature: -30°C; Max Operating Temperature: 85°C; Packaging: Tape and Reel; Viewing Angle: 130°; Package Quantity: 3000; Illumination Color: Green; Lens Transparency: Clear; Test Current: 20mA; Power Dissipation: 75mW; Number of LEDs: 1; Series: -; Length: 1mm; Width: 0.5mm; Height: 0.35mm; Depth: 0.5mm; Lead Free: Lead Free; RoHS Compliant: Yes; ComponentLink1URL: https://datasheet.ciiva.com/4269/dwonloadfilehandler-ashxtxtspecnods22-2008-0170-4269603.pdf?src-supplier=Arrow+Electronics; ComponentLink1Description: https://datasheet.ciiva.com/4269/dwonloadfilehandler-ashxtxtspecnods22-2008-0170-4269603.pdf?src-supplier=Arrow+Electronics; ComponentLink2URL: https://datasheet.ciiva.com/2958/s-110-ltst-c281kgkt-2958301.pdf?src-supplier=Digi-Key; ComponentLink2Description: https://datasheet.ciiva.com/2958/s-110-ltst-c281kgkt-2958301.pdf?src-supplier=Digi-Key; Supplier Part Number 1: 859-LTST-C281KGKT
footprint LED 0402
pins: 1 K, 2 A
text: GREEN

## LTST-C281TBKT
designator LED?, comment BLue 0402
0402 Blue Color Surface Mount LED With Water Clear Lens; Manufacturer: Vishay Lite-On; Manufacturer Part Number: LTST-C281TBKT; Lens Color: Colorless; Forward Voltage: 2.9V; Viewing Angle: 130°; Test Current: 5mA; Dominant Wavelength: 473nm; Luminous Intensity: 28mcd; Supplier 1: Mouser; RoHS: Yes; Category: LEDs; Stock 1: 18533; Pricing 1: 1=0,39000, 10=0,30600, 50=0,30600, 100=0,13800, 500=0,12500, 1000=0,10300, 5000=0,08800, 10000=0,07100, 25000=0,06600, 50000=0,05900 (USD); Mount: Surface Mount; Case/Package: 0402; Color: Blue; Case Code (Metric): 1005; Case Code (Imperial): 0402; Min Operating Temperature: -20°C; Max Operating Temperature: 80°C; Lens Style: Clear; Lens Transparency: Clear; Package Quantity: 3000; Illumination Color: Blue; Forward Current: 5mA; Packaging: Tape and Reel; Length: 1mm; Width: 0.5mm; Height: 0.35mm; Lead Free: Lead Free; ComponentLink1URL: http://optoelectronics.liteon.com/UpLoad/file/2009%20ShortForm%20-%20SMD%20LED%20(P022-P048).pdf?src-supplier=Future+Electronics; ComponentLink1Description: http://optoelectronics.liteon.com/UpLoad/file/2009%20ShortForm%20-%20SMD%20LED%20(P022-P048).pdf?src-supplier=Future+Electronics; Supplier Part Number 1: 859-LTST-C281TBKT
footprint LED 0402
pins: 1 K, 2 A
text: BLUE

## MAX17260SETD+
designator U?, comment Fuel Gauge MAX17260
Gestión de baterías 5.1 A 1-Cell Fuel Gauge with ModelGauge m5 EZ and Optional High-SideCurrent Sensing; Manufacturer: Maxim Integrated; Manufacturer Part Number: MAX17260SETD+; Empaquetado / Estuche: TDFN-EP-14; Producto: Fuel Gauges; Estilo de montaje: SMD/SMT; Tipo de batería: Li+, LiFePO4; CNHTS: 8542319000; Kit de desarrollo: MAX17260XEVKIT#; Temperatura operativa máxima: + 85 C; Temperatura operativa mínima: - 40 C; Corriente de suministro operativa: 15 uA; Voltaje operativo de suministro: 2.3 V to 4.9 V; Tipo de producto: Battery Management; Cantidad estándar de paquetes: 100; Subcategoría: PMIC - Power Management ICs; Product Status: New Product; Supplier 1: Mouser; RoHS: RoHS Compliant; Category: Gestión de baterías; Stock 1: 287; Pricing 1: 1=1.96, 25=1.34, 50=1.09, 250=1.07, 1000=1.01 (EUR); Serie: MAX17260; Marca: Maxim Integrated; HTS Code: 8542390001; Fabricante: Maxim Integrated; RoHS - Mouser: Y; Minimum Order Quantity: 1; Reeling: False; ComponentLink1URL: http://www.mouser.com/datasheet/2/256/MAX17260-1369516.pdf; ComponentLink1Description: http://www.mouser.com/datasheet/2/256/MAX17260-1369516.pdf; Supplier Part Number 1: 700-MAX17260SETD+
footprint TDFN14-1.7X2.3MM (T1433+2C Maxim code)
pins: 1 TH, 2 NC, 3 NC, 4 NC, 5 NC, 6 BATT, 7 CSN, 8 GND, 9 CSPL, 10 CSPH, 11 REG, 12 ALRT, 13 SDA, 14 SCL, 15 PAD

## MAX77757JEFG420+
designator U?, comment 3A USB C Charger  Supplier Part Number 1: MAX77757JEFG420+
Gestión de baterías 14V Input, 3A USB Type C Autonomous Charger; Manufacturer: Maxim; Supplier 1: Avnet; Manufacturer Part Number: MAX77757JEFG420+; RoHS: No; Pricing 1: 624=2,08051, 1248=2,01751, 2496=1,95451, 3744=1,89151, 4992=1,82851, 6240=1,76551, 62400=1,70251 (USD)
footprint 21-100385_90-100128_MXM (Footprint not found)
pins: 1 BST, 2 INOKB, 3 STAT, 4 CC2, 5 CC1, 6 DP, 7 DN, 8 ENBST, 9 GND, 10 VDD, 11 THM, 12 IFAST, 13 BATT, 14 BATT, 15 SYS, 16 SYS, 17 PVL, 18 PGND, 19 PGND, 20 LX, 21 LX, 22 BYP, 23 CHGIN, 24 CHGIN

## MAX98300ETA+T
designator U?, comment Mono Amplifier 2.6W
MAX98300 Series 5.5 V 2.6 W Class D Mono Surface Mount Audio Amplifier - TDFN-8; Manufacturer: Maxim; Manufacturer Part Number: MAX98300ETA+T; Voltage Gain: 12dB; Min Supply Voltage: 2.6V; Max Supply Voltage: 5.5V; Common Mode Rejection Ratio: 50dB; Max Power Dissipation: 953.5mW; Nominal Supply Current: 2mA; Power Supply Rejection Ratio (PSRR): 70dB; Number of Channels: 1; Max Output Current: 600mA; Load Impedance: 4R; Supplier 1: Mouser; RoHS: Yes; Category: Amplifiers - Audio; Stock 1: 8609; Pricing 1: 1=1,59000, 10=1,44000, 25=1,35000, 50=1,35000, 100=1,16000, 250=1,08000, 500=0,94500, 1000=0,81000, 10000=0,78200 (USD); Mount: Surface Mount; Number of Pins: 8; Contact Plating: Tin,Matte; Min Operating Temperature: -40°C; Max Operating Temperature: 85°C; Package Quantity: 2500; Packaging: Tape and Reel; Output Power: 2.6W; Max Output Power: 2.6W; Series: -; Supply Current: 2mA; Radiation Hardening: No; REACH SVHC: Unknown; RoHS Compliant: Yes; ComponentLink1URL: https://datasheet.ciiva.com/29639/max98300-29639253.pdf?src-supplier=Digi-Key; ComponentLink1Description: https://datasheet.ciiva.com/29639/max98300-29639253.pdf?src-supplier=Digi-Key; ComponentLink2URL: https://datasheet.ciiva.com/2968/max98300-2968003.pdf?src-supplier=Avnet; ComponentLink2Description: https://datasheet.ciiva.com/2968/max98300-2968003.pdf?src-supplier=Avnet; Supplier Part Number 1: 700-MAX98300ETA+T
footprint SON50P200X200X80-9N-D
pins: 1 IN+, 2 IN-, 3 ~{SHDN}, 4 GAIN, 5 PGND, 6 OUT-, 7 OUT+, 8 PVDD, 9 EP

## MIC2877-AYFT-TR
designator U?, comment Boost adjustable 2A
Conv DC-DC 2.5V to 5.5V Synchronous Step Up Single-Out 2.5V to 5.5V 2A 8-Pin FTQFN T/R; Manufacturer: Microchip; Manufacturer Part Number: MIC2877-AYFT-TR; Supplier 1: Mouser; RoHS: Yes; Category: Voltage Regulators - Switching; Stock 1: 4903; Pricing 1: 1=1,17000, 10=1,17000, 50=0,98600, 100=0,90000, 1000=0,90000, 10000=0,89900 (USD); Mount: Surface Mount; Number of Pins: 8; Packaging: Tape and Reel; RoHS Compliant: Yes; ComponentLink1URL: http://www.microchip.com/mymicrochip/filehandler.aspx?ddocname=en601345&src-supplier=Digi-Key; ComponentLink1Description: http://www.microchip.com/mymicrochip/filehandler.aspx?ddocname=en601345&src-supplier=Digi-Key; Supplier Part Number 1: 579-MIC2877-AYFT-TR
footprint MIC2877AYFTTR
pins: 1 VIN, 2 AGND, 3 PGND, 4 SW, 5 VOUT, 6 EN, 7 FB, 8 PG

## MMZ1608B121CTAH0
designator B?, comment 120OHM 0603 1LN
FERRITE BEAD 120 OHM 0603 1LN; Manufacturer: TDK Corporation; Manufacturer Part Number: MMZ1608B121CTAH0; Filter Type: Signal Line; Current Rating (Max): 600mA; DC Resistance (DCR) (Max): 150 mOhm; Supplier 1: Digi-Key; RoHS: RoHS Compliant; Category: Filters; Stock 1: 139504; Pricing 1: 1=0.09, 10=0.062, 25=0.056, 50=0.0504, 100=0.0371, 250=0.02692, 500=0.02468, 1000=0.02132 (EUR); Packaging: Cut Tape (CT); Part Status: Active; Ratings: -; Operating Temperature: -55°C ~ 125°C; Package / Case: 0603 (1608 Metric); Mounting Type: Surface Mount; Height (Max): 0.030" (0.75mm); Size / Dimension: 0.063" L x 0.032" W (1.60mm x 0.80mm); ComponentLink1URL: https://product.tdk.com/info/en/catalog/datasheets/beads_commercial_signal_mmz1608_en.pdf; ComponentLink1Description: https://product.tdk.com/info/en/catalog/datasheets/beads_commercial_signal_mmz1608_en.pdf; Supplier Part Number 1: 445-2164-1-ND
footprint R 0603/1608
pins: 1, 2

## NCP15XH103F03RC
designator THR?, comment NTC 10K 3380K 0402
THERMISTOR NTC 10KOHM 3380K 0402; Manufacturer: Murata Electronics North America; Manufacturer Part Number: NCP15XH103F03RC; Resistance Tolerance: ±1%; B25/85: 3434K; B25/100: 3455K; Supplier 1: Digi-Key; RoHS: RoHS Compliant; Category: Sensors, Transducers; Stock 1: 432156; Pricing 1: 1=0.11, 5=0.106, 10=0.094, 25=0.0868, 50=0.0696, 100=0.0596, 500=0.05216, 1000=0.04471, 5000=0.03974 (GBP); Packaging: Cut Tape (CT); Part Status: Active; Resistance in Ohms @ 25°C: 10k; B Value Tolerance: ±1%; B0/50: -; B25/50: 3380K; B25/75: -; Operating Temperature: -40°C ~ 125°C; Length - Lead Wire: -; Mounting Type: Surface Mount; Package / Case: 0402 (1005 Metric); ComponentLink1URL: https://www.murata.com/en-us/api/pdfdownloadapi?cate=&partno=NCP15XH103F03RC; ComponentLink1Description: https://www.murata.com/en-us/api/pdfdownloadapi?cate=&partno=NCP15XH103F03RC; Supplier Part Number 1: 490-4801-1-ND
footprint R 0402/1005
pins: 1, 2

## NRH2410T6R8MN
designator L?, comment 6.8uH 0,.7A  Supplier Part Number 1: 963-NRH2410T6R8MN
Inductor Power Shielded Wirewound 6.8uH 20% 100KHz Ferrite 0.57A 0.492Ohm DCR T/R; Manufacturer: Taiyo Yuden; Manufacturer Part Number: NRH2410T6R8MN; Current Rating: 570mA; Saturation Current: 750mA; Self Resonant Frequency: 43MHz; DC Resistance (DCR): 492mR; Supplier 1: Mouser; RoHS: Yes; Category: Fixed Inductors; Stock 1: 34335; Pricing 1: 1=0,23000, 10=0,15400, 50=0,15400, 100=0,12400, 1000=0,09100, 10000=0,06800 (USD); Mount: Surface Mount; Case/Package: Nonstandard; Number of Pins: 2; Core Material: Ferrite; Min Operating Temperature: -25°C; Max Operating Temperature: 120°C; Tolerance: 20%; Shielding: Shielded; Packaging: Tape and Reel; Inductance: 6.8uH; Resistor Type: Wirewound; Test Frequency: 100kHz; Package Quantity: 2500; Inductance Tolerance: 20%; Max DC Current: 750mA; Termination: SMD/SMT; Series: NRH; Length: 2.4mm; Width: 0.094inch; Height: 1mm; Height - Seated (Max): 0.039inch; Lead Pitch: 1.45mm; Depth: 2.5mm; Radiation Hardening: No; RoHS Compliant: Yes; REACH SVHC: No SVHC; Halogen Free: Halogen Free; ComponentLink1URL: https://datasheet.ciiva.com/1043/nrh2410t6r8mn-ss-1043809.pdf?src-supplier=Digi-Key; ComponentLink1Description: https://datasheet.ciiva.com/1043/nrh2410t6r8mn-ss-1043809.pdf?src-supplier=Digi-Key; ComponentLink2URL: https://datasheet.ciiva.com/8502/nrh2410t6r8mn-ss-8502817.pdf?src-supplier=Avnet; ComponentLink2Description: https://datasheet.ciiva.com/8502/nrh2410t6r8mn-ss-8502817.pdf?src-supplier=Avnet; ComponentLink3URL: https://datasheet.ciiva.com/25606/0900766b810b3cd2-25606903.pdf?src-supplier=RSComponents; ComponentLink3Description: https://datasheet.ciiva.com/25606/0900766b810b3cd2-25606903.pdf?src-supplier=RSComponents
footprint NRH2410T6R8MN
pins: 1, 2